# EAGLE library part XKT-412 (library my_ic)
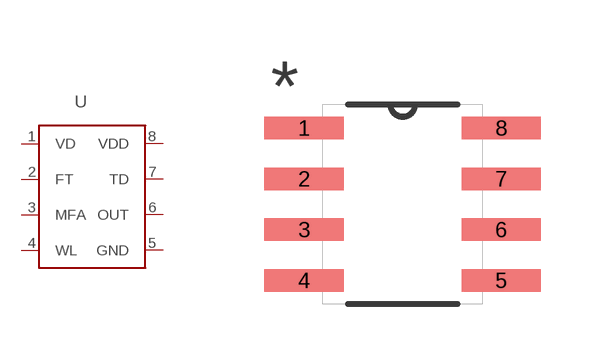
[diagram p28: symbol with the pads of SOIC-8; footprint SOIC-8]

Designator prefix -

## XKT-412  [SOIC-8]
1  VD
2  FT
3  MFA
4  WL
5  GND
6  OUT
7  TD
8  VDD

## Footprint SOIC-8 (pad centres in mm)
smd 1.981 x 0.559: 1 -2.464,1.905; 2 -2.464,0.635; 3 -2.464,-0.635; 4 -2.464,-1.905; 5 2.464,-1.905; 6 2.464,-0.635; 7 2.464,0.635; 8 2.464,1.905